# EAGLE library part LT8609 (library dc-dc-regulators)
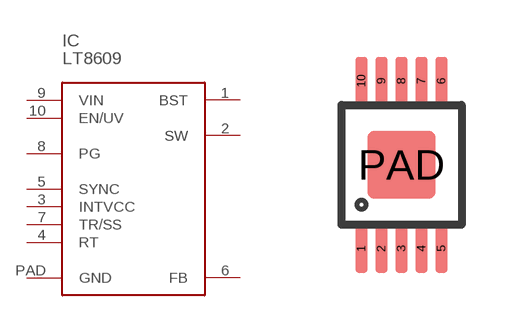
[diagram p5: symbol with the pads of MSOP10-PAD; footprint MSOP10-PAD]

Designator prefix IC

## LT8609  [MSOP10-PAD]
1  BST
2  SW
3  INTVCC
4  RT
5  SYNC
6  FB
7  TR/SS
8  PG
9  VIN
10  EN/UV
PAD  GND

## Footprint MSOP10-PAD (pad centres in mm)
smd 0.3 x 1.2: 1 -1,-2.1; 2 -0.5,-2.1; 3 0,-2.1; 4 0.5,-2.1; 5 1,-2.1; 6 1,2.1; 7 0.5,2.1; 8 0,2.1; 9 -0.5,2.1; 10 -1,2.1
smd 1.7 x 1.7: PAD 0,0